# EAGLE library part MTXDOT-NA1-A00-1 (library MTXDOT-NA1-A00-1)
915 MHz LoRa Module UFL/TRC
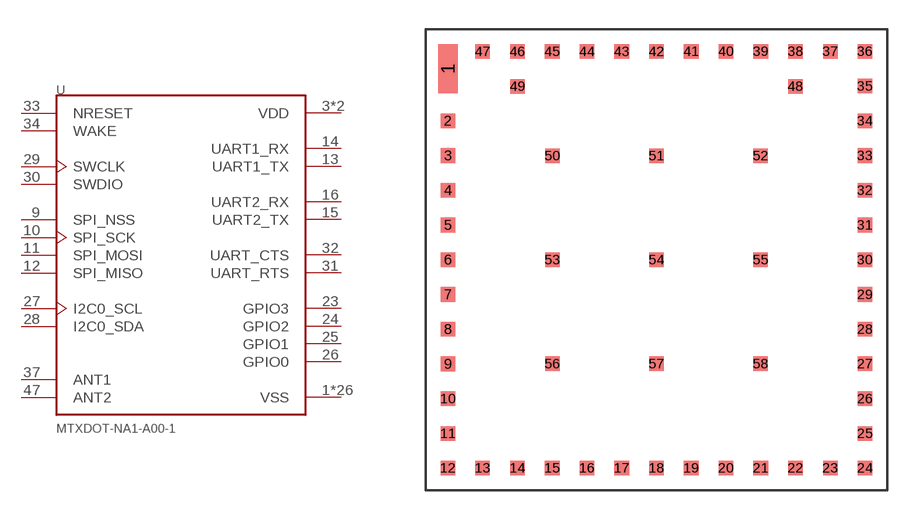
[diagram p0: symbol with the pads of XCVR_MTXDOT-NA1-A00-1; footprint XCVR_MTXDOT-NA1-A00-1]

Designator prefix U

## MTXDOT-NA1-A00-1 (Description: xDot 915 MHz LoRa Module UFL/TRC _Single Pack_; Digi-Key_Part_Number: 591-1291-ND; Digi-Key_Purchase_URL: https://www.digikey.com/product-detail/en/multi-tech-systems-inc/MTXDOT-NA1-A00-1/591-1291-ND/6237034?WT.z_cid=ref_snapeda&utm_source=snapeda&utm_medium=aggregator&utm_campaign=buynow; MF: Multi-Tech Systems; MP: MTXDOT-NA1-A00-1; Package: Module Multi-Tech Systems)  [XCVR_MTXDOT-NA1-A00-1]
1  VSS  pwr
3  VDD  pwr
4  VDD  pwr
5  VSS  pwr
9  SPI_NSS
10  SPI_SCK
11  SPI_MOSI
12  SPI_MISO
13  UART1_TX
14  UART1_RX
15  UART2_TX
16  UART2_RX
17  VSS  pwr
20  VSS  pwr
23  GPIO3
24  GPIO2
25  GPIO1
26  GPIO0
27  I2C0_SCL
28  I2C0_SDA
29  SWCLK
30  SWDIO
31  UART_RTS
32  UART_CTS
33  NRESET  in
34  WAKE  in
35  VSS  pwr
36  VSS  pwr
37  ANT1  pas
38  VSS  pwr
39  VSS  pwr
40  VSS  pwr
41  VSS  pwr
42  VSS  pwr
43  VSS  pwr
44  VSS  pwr
45  VSS  pwr
46  VSS  pwr
47  ANT2  pas
48  VSS  pwr
49  VSS  pwr
50  VSS  pwr
51  VSS  pwr
52  VSS  pwr
53  VSS  pwr
54  VSS  pwr
55  VSS  pwr
56  VSS  pwr
57  VSS  pwr
58  VSS  pwr

## Footprint XCVR_MTXDOT-NA1-A00-1 (pad centres in mm)
smd 0.99 x 2.51: 1 -10.68,9.79
smd 0.75 x 0.75: 2 -10.68,7.12; 3 -10.68,5.34; 4 -10.68,3.56; 5 -10.68,1.78; 6 -10.67,0; 7 -10.67,-1.78; 8 -10.67,-3.56; 9 -10.67,-5.34; 10 -10.67,-7.12; 11 -10.67,-8.9; 12 -10.68,-10.67; 13 -8.9,-10.67; 14 -7.12,-10.67; 15 -5.34,-10.67; 16 -3.56,-10.67; 17 -1.78,-10.67; 18 0,-10.67; 19 1.78,-10.67; 20 3.56,-10.67; 21 5.34,-10.67; 22 7.12,-10.67; 23 8.9,-10.67; 24 10.68,-10.67; 25 10.68,-8.9; 26 10.68,-7.12; 27 10.68,-5.33; 28 10.68,-3.56; 29 10.68,-1.78; 30 10.67,0; 31 10.67,1.78; 32 10.67,3.56; 33 10.67,5.34; 34 10.67,7.12; 35 10.67,8.9; 36 10.67,10.68; 37 8.9,10.68; 38 7.12,10.68; 39 5.34,10.68; 40 3.56,10.68; 41 1.78,10.68; 42 0,10.67; 43 -1.78,10.67; 44 -3.56,10.67; 45 -5.34,10.67; 46 -7.12,10.67; 47 -8.9,10.67; 48 7.11,8.89; 49 -7.11,8.89; 50 -5.33,5.33; 51 0,5.33; 52 5.33,5.33; 53 -5.33,0; 54 0,0; 55 5.33,0; 56 -5.33,-5.33; 57 0,-5.33; 58 5.33,-5.33